# Altium footprint library FQFP (0.3mm Pitch, Square) - Corner Index.PcbLib: 26 footprints (part 1 of 3)
Each footprint in its own frame and in the unit in brackets; x right, y up, seen from the top. Pads: shape width x height; smd on the part's side, far side on the other; paste and mask are expansions set on the pad; w line width, h text height; cw(c..) or ccw(c..) is an arc to the next point about the centre after c.
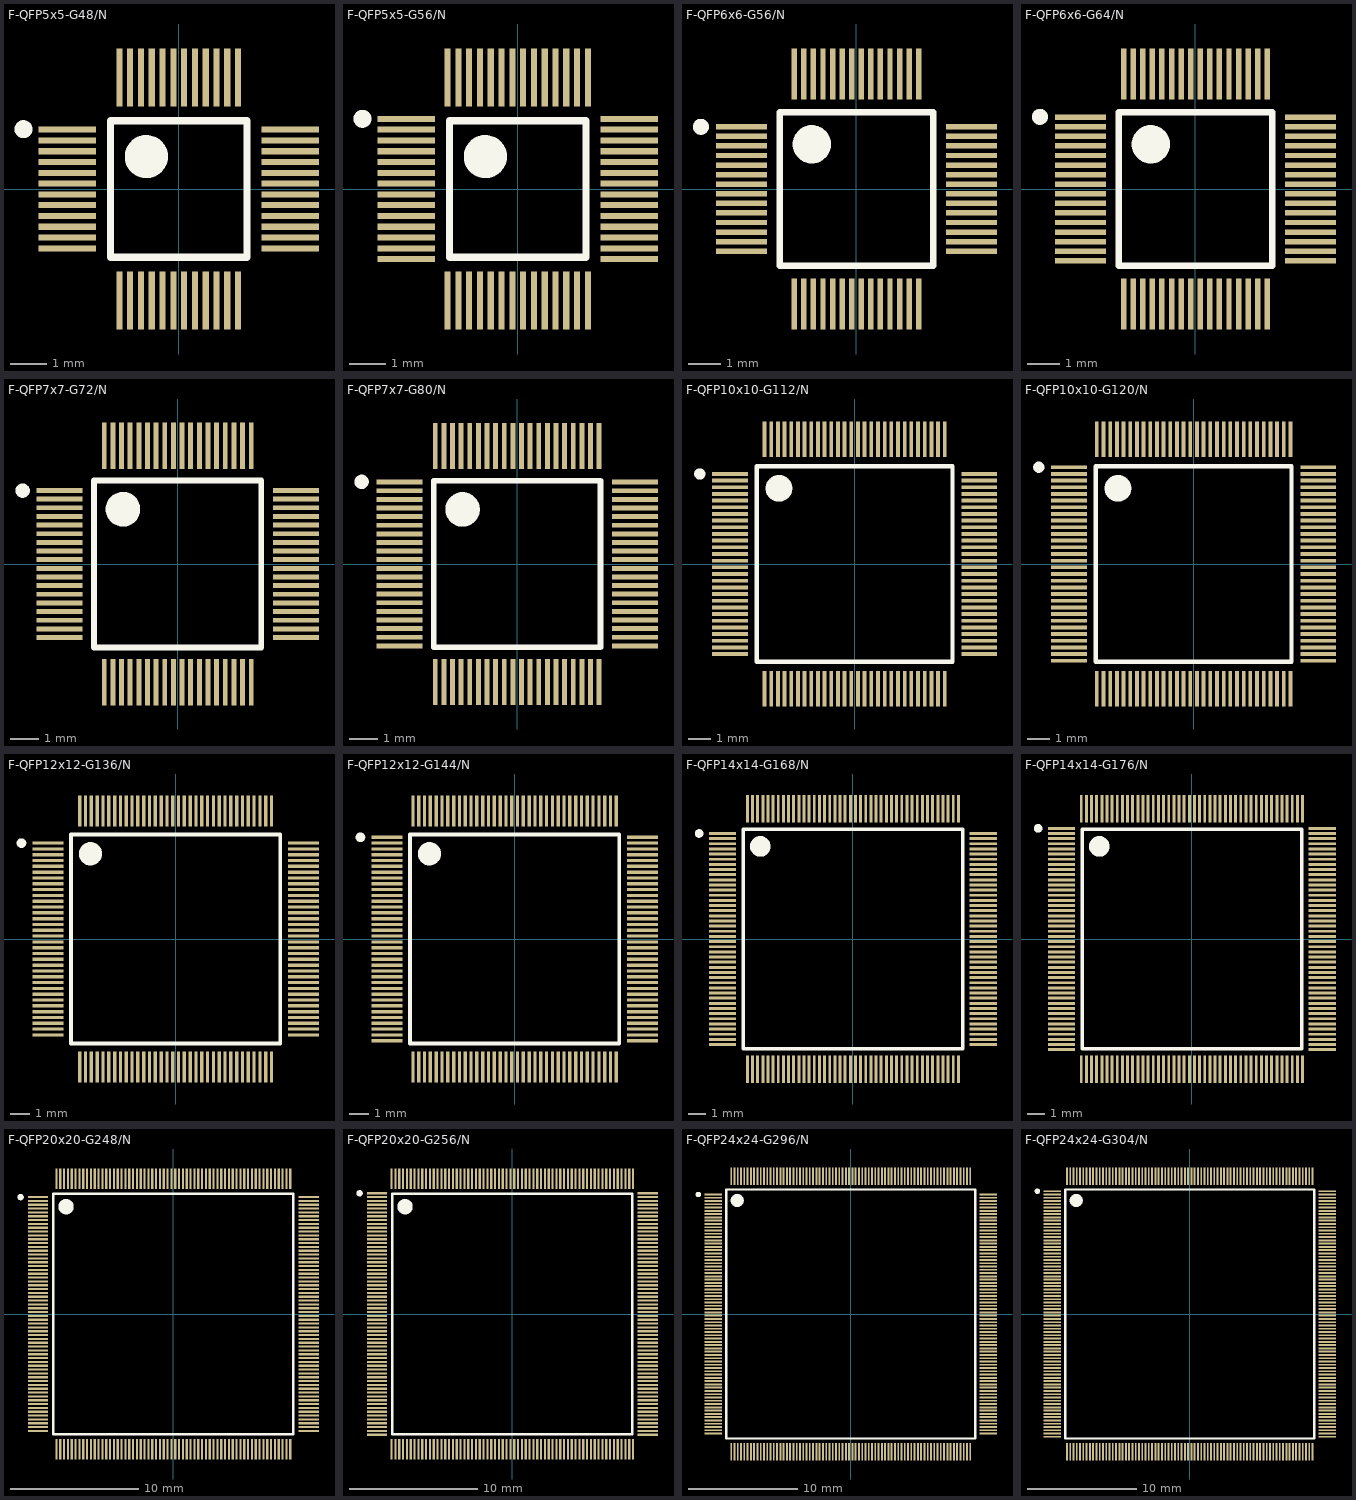
[diagram p0: the footprints below, top view; thin cyan lines are the x and y axes]

## F-QFP5x5-G48/N [mm] "QFP; 48 Leads; Body 5 x 5 mm; Pitch 0.3 mm"
height 1.7
pads (48):
  rect 1.6x0.17 smd: 1(-3.1,1.65) 2(-3.1,1.35) 3(-3.1,1.05) 4(-3.1,0.75) 5(-3.1,0.45) 6(-3.1,0.15) 7(-3.1,-0.15) 8(-3.1,-0.45) 9(-3.1,-0.75) 10(-3.1,-1.05) 11(-3.1,-1.35) 12(-3.1,-1.65) 25(3.1,-1.65) 26(3.1,-1.35) 27(3.1,-1.05) 28(3.1,-0.75) 29(3.1,-0.45) 30(3.1,-0.15) 31(3.1,0.15) 32(3.1,0.45) 33(3.1,0.75) 34(3.1,1.05) 35(3.1,1.35) 36(3.1,1.65)
  rect 0.17x1.6 smd: 13(-1.65,-3.1) 14(-1.35,-3.1) 15(-1.05,-3.1) 16(-0.75,-3.1) 17(-0.45,-3.1) 18(-0.15,-3.1) 19(0.15,-3.1) 20(0.45,-3.1) 21(0.75,-3.1) 22(1.05,-3.1) 23(1.35,-3.1) 24(1.65,-3.1) 37(1.65,3.1) 38(1.35,3.1) 39(1.05,3.1) 40(0.75,3.1) 41(0.45,3.1) 42(0.15,3.1) 43(-0.15,3.1) 44(-0.45,3.1) 45(-0.75,3.1) 46(-1.05,3.1) 47(-1.35,3.1) 48(-1.65,3.1)
Top Overlay:
  circle w0.25: c-4.316,1.663 r0.125
  circle w0.6: c-0.9,0.9 r0.3
  lines w0.2: -1.9,-1.9 1.9,-1.9 1.9,1.9 -1.9,1.9 -1.9,-1.9

## F-QFP5x5-G56/N [mm] "QFP; 56 Leads; Body 5 x 5 mm; Pitch 0.3 mm"
height 1.7
pads (56):
  rect 1.6x0.17 smd: 1(-3.1,1.95) 2(-3.1,1.65) 3(-3.1,1.35) 4(-3.1,1.05) 5(-3.1,0.75) 6(-3.1,0.45) 7(-3.1,0.15) 8(-3.1,-0.15) 9(-3.1,-0.45) 10(-3.1,-0.75) 11(-3.1,-1.05) 12(-3.1,-1.35) 13(-3.1,-1.65) 14(-3.1,-1.95) 29(3.1,-1.95) 30(3.1,-1.65) 31(3.1,-1.35) 32(3.1,-1.05) 33(3.1,-0.75) 34(3.1,-0.45) 35(3.1,-0.15) 36(3.1,0.15) 37(3.1,0.45) 38(3.1,0.75) 39(3.1,1.05) 40(3.1,1.35) 41(3.1,1.65) 42(3.1,1.95)
  rect 0.17x1.6 smd: 15(-1.95,-3.1) 16(-1.65,-3.1) 17(-1.35,-3.1) 18(-1.05,-3.1) 19(-0.75,-3.1) 20(-0.45,-3.1) 21(-0.15,-3.1) 22(0.15,-3.1) 23(0.45,-3.1) 24(0.75,-3.1) 25(1.05,-3.1) 26(1.35,-3.1) 27(1.65,-3.1) 28(1.95,-3.1) 43(1.95,3.1) 44(1.65,3.1) 45(1.35,3.1) 46(1.05,3.1) 47(0.75,3.1) 48(0.45,3.1) 49(0.15,3.1) 50(-0.15,3.1) 51(-0.45,3.1) 52(-0.75,3.1) 53(-1.05,3.1) 54(-1.35,3.1) 55(-1.65,3.1) 56(-1.95,3.1)
Top Overlay:
  circle w0.25: c-4.316,1.952 r0.125
  circle w0.6: c-0.9,0.9 r0.3
  lines w0.2: -1.9,-1.9 1.9,-1.9 1.9,1.9 -1.9,1.9 -1.9,-1.9

## F-QFP6x6-G56/N [mm] "QFP; 56 Leads; Body 6 x 6 mm; Pitch 0.3 mm"
height 1.7
pads (56):
  rect 1.6x0.17 smd: 1(-3.6,1.95) 2(-3.6,1.65) 3(-3.6,1.35) 4(-3.6,1.05) 5(-3.6,0.75) 6(-3.6,0.45) 7(-3.6,0.15) 8(-3.6,-0.15) 9(-3.6,-0.45) 10(-3.6,-0.75) 11(-3.6,-1.05) 12(-3.6,-1.35) 13(-3.6,-1.65) 14(-3.6,-1.95) 29(3.6,-1.95) 30(3.6,-1.65) 31(3.6,-1.35) 32(3.6,-1.05) 33(3.6,-0.75) 34(3.6,-0.45) 35(3.6,-0.15) 36(3.6,0.15) 37(3.6,0.45) 38(3.6,0.75) 39(3.6,1.05) 40(3.6,1.35) 41(3.6,1.65) 42(3.6,1.95)
  rect 0.17x1.6 smd: 15(-1.95,-3.6) 16(-1.65,-3.6) 17(-1.35,-3.6) 18(-1.05,-3.6) 19(-0.75,-3.6) 20(-0.45,-3.6) 21(-0.15,-3.6) 22(0.15,-3.6) 23(0.45,-3.6) 24(0.75,-3.6) 25(1.05,-3.6) 26(1.35,-3.6) 27(1.65,-3.6) 28(1.95,-3.6) 43(1.95,3.6) 44(1.65,3.6) 45(1.35,3.6) 46(1.05,3.6) 47(0.75,3.6) 48(0.45,3.6) 49(0.15,3.6) 50(-0.15,3.6) 51(-0.45,3.6) 52(-0.75,3.6) 53(-1.05,3.6) 54(-1.35,3.6) 55(-1.65,3.6) 56(-1.95,3.6)
Top Overlay:
  circle w0.25: c-4.87,1.948 r0.125
  circle w0.6: c-1.4,1.4 r0.3
  lines w0.2: -2.4,-2.4 2.4,-2.4 2.4,2.4 -2.4,2.4 -2.4,-2.4

## F-QFP6x6-G64/N [mm] "QFP; 64 Leads; Body 6 x 6 mm; Pitch 0.3 mm"
height 1.7
pads (64):
  rect 1.6x0.17 smd: 1(-3.6,2.25) 2(-3.6,1.95) 3(-3.6,1.65) 4(-3.6,1.35) 5(-3.6,1.05) 6(-3.6,0.75) 7(-3.6,0.45) 8(-3.6,0.15) 9(-3.6,-0.15) 10(-3.6,-0.45) 11(-3.6,-0.75) 12(-3.6,-1.05) 13(-3.6,-1.35) 14(-3.6,-1.65) 15(-3.6,-1.95) 16(-3.6,-2.25) 33(3.6,-2.25) 34(3.6,-1.95) 35(3.6,-1.65) 36(3.6,-1.35) 37(3.6,-1.05) 38(3.6,-0.75) 39(3.6,-0.45) 40(3.6,-0.15) 41(3.6,0.15) 42(3.6,0.45) 43(3.6,0.75) 44(3.6,1.05) 45(3.6,1.35) 46(3.6,1.65) 47(3.6,1.95) 48(3.6,2.25)
  rect 0.17x1.6 smd: 17(-2.25,-3.6) 18(-1.95,-3.6) 19(-1.65,-3.6) 20(-1.35,-3.6) 21(-1.05,-3.6) 22(-0.75,-3.6) 23(-0.45,-3.6) 24(-0.15,-3.6) 25(0.15,-3.6) 26(0.45,-3.6) 27(0.75,-3.6) 28(1.05,-3.6) 29(1.35,-3.6) 30(1.65,-3.6) 31(1.95,-3.6) 32(2.25,-3.6) 49(2.25,3.6) 50(1.95,3.6) 51(1.65,3.6) 52(1.35,3.6) 53(1.05,3.6) 54(0.75,3.6) 55(0.45,3.6) 56(0.15,3.6) 57(-0.15,3.6) 58(-0.45,3.6) 59(-0.75,3.6) 60(-1.05,3.6) 61(-1.35,3.6) 62(-1.65,3.6) 63(-1.95,3.6) 64(-2.25,3.6)
Top Overlay:
  circle w0.6: c-1.4,1.4 r0.3
  circle w0.25: c-4.869,2.26 r0.125
  lines w0.2: -2.4,-2.4 -2.4,2.4 2.4,2.4 2.4,-2.4 -2.4,-2.4

## F-QFP7x7-G72/N [mm] "QFP; 72 Leads; Body 7 x 7 mm; Pitch 0.3 mm"
height 1.7
pads (72):
  rect 1.6x0.17 smd: 1(-4.1,2.55) 2(-4.1,2.25) 3(-4.1,1.95) 4(-4.1,1.65) 5(-4.1,1.35) 6(-4.1,1.05) 7(-4.1,0.75) 8(-4.1,0.45) 9(-4.1,0.15) 10(-4.1,-0.15) 11(-4.1,-0.45) 12(-4.1,-0.75) 13(-4.1,-1.05) 14(-4.1,-1.35) 15(-4.1,-1.65) 16(-4.1,-1.95) 17(-4.1,-2.25) 18(-4.1,-2.55) 37(4.1,-2.55) 38(4.1,-2.25) 39(4.1,-1.95) 40(4.1,-1.65) 41(4.1,-1.35) 42(4.1,-1.05) 43(4.1,-0.75) 44(4.1,-0.45) 45(4.1,-0.15) 46(4.1,0.15) 47(4.1,0.45) 48(4.1,0.75) 49(4.1,1.05) 50(4.1,1.35) 51(4.1,1.65) 52(4.1,1.95) 53(4.1,2.25) 54(4.1,2.55)
  rect 0.17x1.6 smd: 19(-2.55,-4.1) 20(-2.25,-4.1) 21(-1.95,-4.1) 22(-1.65,-4.1) 23(-1.35,-4.1) 24(-1.05,-4.1) 25(-0.75,-4.1) 26(-0.45,-4.1) 27(-0.15,-4.1) 28(0.15,-4.1) 29(0.45,-4.1) 30(0.75,-4.1) 31(1.05,-4.1) 32(1.35,-4.1) 33(1.65,-4.1) 34(1.95,-4.1) 35(2.25,-4.1) 36(2.55,-4.1) 55(2.55,4.1) 56(2.25,4.1) 57(1.95,4.1) 58(1.65,4.1) 59(1.35,4.1) 60(1.05,4.1) 61(0.75,4.1) 62(0.45,4.1) 63(0.15,4.1) 64(-0.15,4.1) 65(-0.45,4.1) 66(-0.75,4.1) 67(-1.05,4.1) 68(-1.35,4.1) 69(-1.65,4.1) 70(-1.95,4.1) 71(-2.25,4.1) 72(-2.55,4.1)
Top Overlay:
  circle w0.25: c-5.38,2.545 r0.125
  circle w0.6: c-1.9,1.9 r0.3
  lines w0.2: -2.9,-2.9 2.9,-2.9 2.9,2.9 -2.9,2.9 -2.9,-2.9

## F-QFP7x7-G80/N [mm] "QFP; 80 Leads; Body 7 x 7 mm; Pitch 0.3 mm"
height 1.7
pads (80):
  rect 1.6x0.17 smd: 1(-4.1,2.85) 2(-4.1,2.55) 3(-4.1,2.25) 4(-4.1,1.95) 5(-4.1,1.65) 6(-4.1,1.35) 7(-4.1,1.05) 8(-4.1,0.75) 9(-4.1,0.45) 10(-4.1,0.15) 11(-4.1,-0.15) 12(-4.1,-0.45) 13(-4.1,-0.75) 14(-4.1,-1.05) 15(-4.1,-1.35) 16(-4.1,-1.65) 17(-4.1,-1.95) 18(-4.1,-2.25) 19(-4.1,-2.55) 20(-4.1,-2.85) 41(4.1,-2.85) 42(4.1,-2.55) 43(4.1,-2.25) 44(4.1,-1.95) 45(4.1,-1.65) 46(4.1,-1.35) 47(4.1,-1.05) 48(4.1,-0.75) 49(4.1,-0.45) 50(4.1,-0.15) 51(4.1,0.15) 52(4.1,0.45) 53(4.1,0.75) 54(4.1,1.05) 55(4.1,1.35) 56(4.1,1.65) 57(4.1,1.95) 58(4.1,2.25) 59(4.1,2.55) 60(4.1,2.85)
  rect 0.17x1.6 smd: 21(-2.85,-4.1) 22(-2.55,-4.1) 23(-2.25,-4.1) 24(-1.95,-4.1) 25(-1.65,-4.1) 26(-1.35,-4.1) 27(-1.05,-4.1) 28(-0.75,-4.1) 29(-0.45,-4.1) 30(-0.15,-4.1) 31(0.15,-4.1) 32(0.45,-4.1) 33(0.75,-4.1) 34(1.05,-4.1) 35(1.35,-4.1) 36(1.65,-4.1) 37(1.95,-4.1) 38(2.25,-4.1) 39(2.55,-4.1) 40(2.85,-4.1) 61(2.85,4.1) 62(2.55,4.1) 63(2.25,4.1) 64(1.95,4.1) 65(1.65,4.1) 66(1.35,4.1) 67(1.05,4.1) 68(0.75,4.1) 69(0.45,4.1) 70(0.15,4.1) 71(-0.15,4.1) 72(-0.45,4.1) 73(-0.75,4.1) 74(-1.05,4.1) 75(-1.35,4.1) 76(-1.65,4.1) 77(-1.95,4.1) 78(-2.25,4.1) 79(-2.55,4.1) 80(-2.85,4.1)
Top Overlay:
  circle w0.6: c-1.9,1.9 r0.3
  circle w0.25: c-5.413,2.859 r0.125
  lines w0.2: -2.9,-2.9 -2.9,2.9 2.9,2.9 2.9,-2.9 -2.9,-2.9

## F-QFP10x10-G112/N [mm] "QFP; 112 Leads; Body 10 x 10 mm; Pitch 0.3 mm"
height 2.2
pads (112):
  rect 1.6x0.17 smd: 1(-5.6,4.05) 2(-5.6,3.75) 3(-5.6,3.45) 4(-5.6,3.15) 5(-5.6,2.85) 6(-5.6,2.55) 7(-5.6,2.25) 8(-5.6,1.95) 9(-5.6,1.65) 10(-5.6,1.35) 11(-5.6,1.05) 12(-5.6,0.75) 13(-5.6,0.45) 14(-5.6,0.15) 15(-5.6,-0.15) 16(-5.6,-0.45) 17(-5.6,-0.75) 18(-5.6,-1.05) 19(-5.6,-1.35) 20(-5.6,-1.65) 21(-5.6,-1.95) 22(-5.6,-2.25) 23(-5.6,-2.55) 24(-5.6,-2.85) 25(-5.6,-3.15) 26(-5.6,-3.45) 27(-5.6,-3.75) 28(-5.6,-4.05) 57(5.6,-4.05) 58(5.6,-3.75) 59(5.6,-3.45) 60(5.6,-3.15) 61(5.6,-2.85) 62(5.6,-2.55) 63(5.6,-2.25) 64(5.6,-1.95) 65(5.6,-1.65) 66(5.6,-1.35) 67(5.6,-1.05) 68(5.6,-0.75) 69(5.6,-0.45) 70(5.6,-0.15) 71(5.6,0.15) 72(5.6,0.45) 73(5.6,0.75) 74(5.6,1.05) 75(5.6,1.35) 76(5.6,1.65) 77(5.6,1.95) 78(5.6,2.25) 79(5.6,2.55) 80(5.6,2.85) 81(5.6,3.15) 82(5.6,3.45) 83(5.6,3.75) 84(5.6,4.05)
  rect 0.17x1.6 smd: 29(-4.05,-5.6) 30(-3.75,-5.6) 31(-3.45,-5.6) 32(-3.15,-5.6) 33(-2.85,-5.6) 34(-2.55,-5.6) 35(-2.25,-5.6) 36(-1.95,-5.6) 37(-1.65,-5.6) 38(-1.35,-5.6) 39(-1.05,-5.6) 40(-0.75,-5.6) 41(-0.45,-5.6) 42(-0.15,-5.6) 43(0.15,-5.6) 44(0.45,-5.6) 45(0.75,-5.6) 46(1.05,-5.6) 47(1.35,-5.6) 48(1.65,-5.6) 49(1.95,-5.6) 50(2.25,-5.6) 51(2.55,-5.6) 52(2.85,-5.6) 53(3.15,-5.6) 54(3.45,-5.6) 55(3.75,-5.6) 56(4.05,-5.6) 85(4.05,5.6) 86(3.75,5.6) 87(3.45,5.6) 88(3.15,5.6) 89(2.85,5.6) 90(2.55,5.6) 91(2.25,5.6) 92(1.95,5.6) 93(1.65,5.6) 94(1.35,5.6) 95(1.05,5.6) 96(0.75,5.6) 97(0.45,5.6) 98(0.15,5.6) 99(-0.15,5.6) 100(-0.45,5.6) 101(-0.75,5.6) 102(-1.05,5.6) 103(-1.35,5.6) 104(-1.65,5.6) 105(-1.95,5.6) 106(-2.25,5.6) 107(-2.55,5.6) 108(-2.85,5.6) 109(-3.15,5.6) 110(-3.45,5.6) 111(-3.75,5.6) 112(-4.05,5.6)
Top Overlay:
  circle w0.25: c-6.96,4.05 r0.125
  circle w0.6: c-3.4,3.4 r0.3
  lines w0.2: -4.4,-4.4 4.4,-4.4 4.4,4.4 -4.4,4.4 -4.4,-4.4

## F-QFP10x10-G120/N [mm] "QFP; 120 Leads; Body 10 x 10 mm; Pitch 0.3 mm"
height 2.2
pads (120):
  rect 1.6x0.17 smd: 1(-5.6,4.35) 2(-5.6,4.05) 3(-5.6,3.75) 4(-5.6,3.45) 5(-5.6,3.15) 6(-5.6,2.85) 7(-5.6,2.55) 8(-5.6,2.25) 9(-5.6,1.95) 10(-5.6,1.65) 11(-5.6,1.35) 12(-5.6,1.05) 13(-5.6,0.75) 14(-5.6,0.45) 15(-5.6,0.15) 16(-5.6,-0.15) 17(-5.6,-0.45) 18(-5.6,-0.75) 19(-5.6,-1.05) 20(-5.6,-1.35) 21(-5.6,-1.65) 22(-5.6,-1.95) 23(-5.6,-2.25) 24(-5.6,-2.55) 25(-5.6,-2.85) 26(-5.6,-3.15) 27(-5.6,-3.45) 28(-5.6,-3.75) 29(-5.6,-4.05) 30(-5.6,-4.35) 61(5.6,-4.35) 62(5.6,-4.05) 63(5.6,-3.75) 64(5.6,-3.45) 65(5.6,-3.15) 66(5.6,-2.85) 67(5.6,-2.55) 68(5.6,-2.25) 69(5.6,-1.95) 70(5.6,-1.65) 71(5.6,-1.35) 72(5.6,-1.05) 73(5.6,-0.75) 74(5.6,-0.45) 75(5.6,-0.15) 76(5.6,0.15) 77(5.6,0.45) 78(5.6,0.75) 79(5.6,1.05) 80(5.6,1.35) 81(5.6,1.65) 82(5.6,1.95) 83(5.6,2.25) 84(5.6,2.55) 85(5.6,2.85) 86(5.6,3.15) 87(5.6,3.45) 88(5.6,3.75) 89(5.6,4.05) 90(5.6,4.35)
  rect 0.17x1.6 smd: 31(-4.35,-5.6) 32(-4.05,-5.6) 33(-3.75,-5.6) 34(-3.45,-5.6) 35(-3.15,-5.6) 36(-2.85,-5.6) 37(-2.55,-5.6) 38(-2.25,-5.6) 39(-1.95,-5.6) 40(-1.65,-5.6) 41(-1.35,-5.6) 42(-1.05,-5.6) 43(-0.75,-5.6) 44(-0.45,-5.6) 45(-0.15,-5.6) 46(0.15,-5.6) 47(0.45,-5.6) 48(0.75,-5.6) 49(1.05,-5.6) 50(1.35,-5.6) 51(1.65,-5.6) 52(1.95,-5.6) 53(2.25,-5.6) 54(2.55,-5.6) 55(2.85,-5.6) 56(3.15,-5.6) 57(3.45,-5.6) 58(3.75,-5.6) 59(4.05,-5.6) 60(4.35,-5.6) 91(4.35,5.6) 92(4.05,5.6) 93(3.75,5.6) 94(3.45,5.6) 95(3.15,5.6) 96(2.85,5.6) 97(2.55,5.6) 98(2.25,5.6) 99(1.95,5.6) 100(1.65,5.6) 101(1.35,5.6) 102(1.05,5.6) 103(0.75,5.6) 104(0.45,5.6) 105(0.15,5.6) 106(-0.15,5.6) 107(-0.45,5.6) 108(-0.75,5.6) 109(-1.05,5.6) 110(-1.35,5.6) 111(-1.65,5.6) 112(-1.95,5.6) 113(-2.25,5.6) 114(-2.55,5.6) 115(-2.85,5.6) 116(-3.15,5.6) 117(-3.45,5.6) 118(-3.75,5.6) 119(-4.05,5.6) 120(-4.35,5.6)
Top Overlay:
  circle w0.25: c-6.96,4.35 r0.125
  circle w0.6: c-3.4,3.4 r0.3
  lines w0.2: -4.4,-4.4 4.4,-4.4 4.4,4.4 -4.4,4.4 -4.4,-4.4

## F-QFP12x12-G136/N [mm] "QFP; 136 Leads; Body 12 x 12 mm; Pitch 0.3 mm"
height 2.2
pads (136):
  rect 1.6x0.17 smd: 1(-6.6,4.95) 2(-6.6,4.65) 3(-6.6,4.35) 4(-6.6,4.05) 5(-6.6,3.75) 6(-6.6,3.45) 7(-6.6,3.15) 8(-6.6,2.85) 9(-6.6,2.55) 10(-6.6,2.25) 11(-6.6,1.95) 12(-6.6,1.65) 13(-6.6,1.35) 14(-6.6,1.05) 15(-6.6,0.75) 16(-6.6,0.45) 17(-6.6,0.15) 18(-6.6,-0.15) 19(-6.6,-0.45) 20(-6.6,-0.75) 21(-6.6,-1.05) 22(-6.6,-1.35) 23(-6.6,-1.65) 24(-6.6,-1.95) 25(-6.6,-2.25) 26(-6.6,-2.55) 27(-6.6,-2.85) 28(-6.6,-3.15) 29(-6.6,-3.45) 30(-6.6,-3.75) 31(-6.6,-4.05) 32(-6.6,-4.35) 33(-6.6,-4.65) 34(-6.6,-4.95) 69(6.6,-4.95) 70(6.6,-4.65) 71(6.6,-4.35) 72(6.6,-4.05) 73(6.6,-3.75) 74(6.6,-3.45) 75(6.6,-3.15) 76(6.6,-2.85) 77(6.6,-2.55) 78(6.6,-2.25) 79(6.6,-1.95) 80(6.6,-1.65) 81(6.6,-1.35) 82(6.6,-1.05) 83(6.6,-0.75) 84(6.6,-0.45) 85(6.6,-0.15) 86(6.6,0.15) 87(6.6,0.45) 88(6.6,0.75) 89(6.6,1.05) 90(6.6,1.35) 91(6.6,1.65) 92(6.6,1.95) 93(6.6,2.25) 94(6.6,2.55) 95(6.6,2.85) 96(6.6,3.15) 97(6.6,3.45) 98(6.6,3.75) 99(6.6,4.05) 100(6.6,4.35) 101(6.6,4.65) 102(6.6,4.95)
  rect 0.17x1.6 smd: 35(-4.95,-6.6) 36(-4.65,-6.6) 37(-4.35,-6.6) 38(-4.05,-6.6) 39(-3.75,-6.6) 40(-3.45,-6.6) 41(-3.15,-6.6) 42(-2.85,-6.6) 43(-2.55,-6.6) 44(-2.25,-6.6) 45(-1.95,-6.6) 46(-1.65,-6.6) 47(-1.35,-6.6) 48(-1.05,-6.6) 49(-0.75,-6.6) 50(-0.45,-6.6) 51(-0.15,-6.6) 52(0.15,-6.6) 53(0.45,-6.6) 54(0.75,-6.6) 55(1.05,-6.6) 56(1.35,-6.6) 57(1.65,-6.6) 58(1.95,-6.6) 59(2.25,-6.6) 60(2.55,-6.6) 61(2.85,-6.6) 62(3.15,-6.6) 63(3.45,-6.6) 64(3.75,-6.6) 65(4.05,-6.6) 66(4.35,-6.6) 67(4.65,-6.6) 68(4.95,-6.6) 103(4.95,6.6) 104(4.65,6.6) 105(4.35,6.6) 106(4.05,6.6) 107(3.75,6.6) 108(3.45,6.6) 109(3.15,6.6) 110(2.85,6.6) 111(2.55,6.6) 112(2.25,6.6) 113(1.95,6.6) 114(1.65,6.6) 115(1.35,6.6) 116(1.05,6.6) 117(0.75,6.6) 118(0.45,6.6) 119(0.15,6.6) 120(-0.15,6.6) 121(-0.45,6.6) 122(-0.75,6.6) 123(-1.05,6.6) 124(-1.35,6.6) 125(-1.65,6.6) 126(-1.95,6.6) 127(-2.25,6.6) 128(-2.55,6.6) 129(-2.85,6.6) 130(-3.15,6.6) 131(-3.45,6.6) 132(-3.75,6.6) 133(-4.05,6.6) 134(-4.35,6.6) 135(-4.65,6.6) 136(-4.95,6.6)
Top Overlay:
  circle w0.25: c-7.96,4.95 r0.125
  circle w0.6: c-4.4,4.4 r0.3
  lines w0.2: -5.4,-5.4 5.4,-5.4 5.4,5.4 -5.4,5.4 -5.4,-5.4

## F-QFP12x12-G144/N [mm] "QFP; 144 Leads; Body 12 x 12 mm; Pitch 0.3 mm"
height 2.2
pads (144):
  rect 1.6x0.17 smd: 1(-6.6,5.25) 2(-6.6,4.95) 3(-6.6,4.65) 4(-6.6,4.35) 5(-6.6,4.05) 6(-6.6,3.75) 7(-6.6,3.45) 8(-6.6,3.15) 9(-6.6,2.85) 10(-6.6,2.55) 11(-6.6,2.25) 12(-6.6,1.95) 13(-6.6,1.65) 14(-6.6,1.35) 15(-6.6,1.05) 16(-6.6,0.75) 17(-6.6,0.45) 18(-6.6,0.15) 19(-6.6,-0.15) 20(-6.6,-0.45) 21(-6.6,-0.75) 22(-6.6,-1.05) 23(-6.6,-1.35) 24(-6.6,-1.65) 25(-6.6,-1.95) 26(-6.6,-2.25) 27(-6.6,-2.55) 28(-6.6,-2.85) 29(-6.6,-3.15) 30(-6.6,-3.45) 31(-6.6,-3.75) 32(-6.6,-4.05) 33(-6.6,-4.35) 34(-6.6,-4.65) 35(-6.6,-4.95) 36(-6.6,-5.25) 73(6.6,-5.25) 74(6.6,-4.95) 75(6.6,-4.65) 76(6.6,-4.35) 77(6.6,-4.05) 78(6.6,-3.75) 79(6.6,-3.45) 80(6.6,-3.15) 81(6.6,-2.85) 82(6.6,-2.55) 83(6.6,-2.25) 84(6.6,-1.95) 85(6.6,-1.65) 86(6.6,-1.35) 87(6.6,-1.05) 88(6.6,-0.75) 89(6.6,-0.45) 90(6.6,-0.15) 91(6.6,0.15) 92(6.6,0.45) 93(6.6,0.75) 94(6.6,1.05) 95(6.6,1.35) 96(6.6,1.65) 97(6.6,1.95) 98(6.6,2.25) 99(6.6,2.55) 100(6.6,2.85) 101(6.6,3.15) 102(6.6,3.45) 103(6.6,3.75) 104(6.6,4.05) 105(6.6,4.35) 106(6.6,4.65) 107(6.6,4.95) 108(6.6,5.25)
  rect 0.17x1.6 smd: 37(-5.25,-6.6) 38(-4.95,-6.6) 39(-4.65,-6.6) 40(-4.35,-6.6) 41(-4.05,-6.6) 42(-3.75,-6.6) 43(-3.45,-6.6) 44(-3.15,-6.6) 45(-2.85,-6.6) 46(-2.55,-6.6) 47(-2.25,-6.6) 48(-1.95,-6.6) 49(-1.65,-6.6) 50(-1.35,-6.6) 51(-1.05,-6.6) 52(-0.75,-6.6) 53(-0.45,-6.6) 54(-0.15,-6.6) 55(0.15,-6.6) 56(0.45,-6.6) 57(0.75,-6.6) 58(1.05,-6.6) 59(1.35,-6.6) 60(1.65,-6.6) 61(1.95,-6.6) 62(2.25,-6.6) 63(2.55,-6.6) 64(2.85,-6.6) 65(3.15,-6.6) 66(3.45,-6.6) 67(3.75,-6.6) 68(4.05,-6.6) 69(4.35,-6.6) 70(4.65,-6.6) 71(4.95,-6.6) 72(5.25,-6.6) 109(5.25,6.6) 110(4.95,6.6) 111(4.65,6.6) 112(4.35,6.6) 113(4.05,6.6) 114(3.75,6.6) 115(3.45,6.6) 116(3.15,6.6) 117(2.85,6.6) 118(2.55,6.6) 119(2.25,6.6) 120(1.95,6.6) 121(1.65,6.6) 122(1.35,6.6) 123(1.05,6.6) 124(0.75,6.6) 125(0.45,6.6) 126(0.15,6.6) 127(-0.15,6.6) 128(-0.45,6.6) 129(-0.75,6.6) 130(-1.05,6.6) 131(-1.35,6.6) 132(-1.65,6.6) 133(-1.95,6.6) 134(-2.25,6.6) 135(-2.55,6.6) 136(-2.85,6.6) 137(-3.15,6.6) 138(-3.45,6.6) 139(-3.75,6.6) 140(-4.05,6.6) 141(-4.35,6.6) 142(-4.65,6.6) 143(-4.95,6.6) 144(-5.25,6.6)
Top Overlay:
  circle w0.25: c-7.96,5.25 r0.125
  circle w0.6: c-4.4,4.4 r0.3
  lines w0.2: -5.4,-5.4 5.4,-5.4 5.4,5.4 -5.4,5.4 -5.4,-5.4

## F-QFP14x14-G168/N [mm] "QFP; 168 Leads; Body 14 x 14 mm; Pitch 0.3 mm"
height 2.2
pads (168):
  rect 1.6x0.17 smd: 1(-7.6,6.15) 2(-7.6,5.85) 3(-7.6,5.55) 4(-7.6,5.25) 5(-7.6,4.95) 6(-7.6,4.65) 7(-7.6,4.35) 8(-7.6,4.05) 9(-7.6,3.75) 10(-7.6,3.45) 11(-7.6,3.15) 12(-7.6,2.85) 13(-7.6,2.55) 14(-7.6,2.25) 15(-7.6,1.95) 16(-7.6,1.65) 17(-7.6,1.35) 18(-7.6,1.05) 19(-7.6,0.75) 20(-7.6,0.45) 21(-7.6,0.15) 22(-7.6,-0.15) 23(-7.6,-0.45) 24(-7.6,-0.75) 25(-7.6,-1.05) 26(-7.6,-1.35) 27(-7.6,-1.65) 28(-7.6,-1.95) 29(-7.6,-2.25) 30(-7.6,-2.55) 31(-7.6,-2.85) 32(-7.6,-3.15) 33(-7.6,-3.45) 34(-7.6,-3.75) 35(-7.6,-4.05) 36(-7.6,-4.35) 37(-7.6,-4.65) 38(-7.6,-4.95) 39(-7.6,-5.25) 40(-7.6,-5.55) 41(-7.6,-5.85) 42(-7.6,-6.15) 85(7.6,-6.15) 86(7.6,-5.85) 87(7.6,-5.55) 88(7.6,-5.25) 89(7.6,-4.95) 90(7.6,-4.65) 91(7.6,-4.35) 92(7.6,-4.05) 93(7.6,-3.75) 94(7.6,-3.45) 95(7.6,-3.15) 96(7.6,-2.85) 97(7.6,-2.55) 98(7.6,-2.25) 99(7.6,-1.95) 100(7.6,-1.65) 101(7.6,-1.35) 102(7.6,-1.05) 103(7.6,-0.75) 104(7.6,-0.45) 105(7.6,-0.15) 106(7.6,0.15) 107(7.6,0.45) 108(7.6,0.75) 109(7.6,1.05) 110(7.6,1.35) 111(7.6,1.65) 112(7.6,1.95) 113(7.6,2.25) 114(7.6,2.55) 115(7.6,2.85) 116(7.6,3.15) 117(7.6,3.45) 118(7.6,3.75) 119(7.6,4.05) 120(7.6,4.35) 121(7.6,4.65) 122(7.6,4.95) 123(7.6,5.25) 124(7.6,5.55) 125(7.6,5.85) 126(7.6,6.15)
  rect 0.17x1.6 smd: 43(-6.15,-7.6) 44(-5.85,-7.6) 45(-5.55,-7.6) 46(-5.25,-7.6) 47(-4.95,-7.6) 48(-4.65,-7.6) 49(-4.35,-7.6) 50(-4.05,-7.6) 51(-3.75,-7.6) 52(-3.45,-7.6) 53(-3.15,-7.6) 54(-2.85,-7.6) 55(-2.55,-7.6) 56(-2.25,-7.6) 57(-1.95,-7.6) 58(-1.65,-7.6) 59(-1.35,-7.6) 60(-1.05,-7.6) 61(-0.75,-7.6) 62(-0.45,-7.6) 63(-0.15,-7.6) 64(0.15,-7.6) 65(0.45,-7.6) 66(0.75,-7.6) 67(1.05,-7.6) 68(1.35,-7.6) 69(1.65,-7.6) 70(1.95,-7.6) 71(2.25,-7.6) 72(2.55,-7.6) 73(2.85,-7.6) 74(3.15,-7.6) 75(3.45,-7.6) 76(3.75,-7.6) 77(4.05,-7.6) 78(4.35,-7.6) 79(4.65,-7.6) 80(4.95,-7.6) 81(5.25,-7.6) 82(5.55,-7.6) 83(5.85,-7.6) 84(6.15,-7.6) 127(6.15,7.6) 128(5.85,7.6) 129(5.55,7.6) 130(5.25,7.6) 131(4.95,7.6) 132(4.65,7.6) 133(4.35,7.6) 134(4.05,7.6) 135(3.75,7.6) 136(3.45,7.6) 137(3.15,7.6) 138(2.85,7.6) 139(2.55,7.6) 140(2.25,7.6) 141(1.95,7.6) 142(1.65,7.6) 143(1.35,7.6) 144(1.05,7.6) 145(0.75,7.6) 146(0.45,7.6) 147(0.15,7.6) 148(-0.15,7.6) 149(-0.45,7.6) 150(-0.75,7.6) 151(-1.05,7.6) 152(-1.35,7.6) 153(-1.65,7.6) 154(-1.95,7.6) 155(-2.25,7.6) 156(-2.55,7.6) 157(-2.85,7.6) 158(-3.15,7.6) 159(-3.45,7.6) 160(-3.75,7.6) 161(-4.05,7.6) 162(-4.35,7.6) 163(-4.65,7.6) 164(-4.95,7.6) 165(-5.25,7.6) 166(-5.55,7.6) 167(-5.85,7.6) 168(-6.15,7.6)
Top Overlay:
  circle w0.6: c-5.4,5.4 r0.3
  circle w0.25: c-8.96,6.15 r0.125
  lines w0.2: -6.4,-6.4 -6.4,6.4 6.4,6.4 6.4,-6.4 -6.4,-6.4

## F-QFP14x14-G176/N [mm] "QFP; 176 Leads; Body 14 x 14 mm; Pitch 0.3 mm"
height 2.2
pads (176):
  rect 1.6x0.17 smd: 1(-7.6,6.45) 2(-7.6,6.15) 3(-7.6,5.85) 4(-7.6,5.55) 5(-7.6,5.25) 6(-7.6,4.95) 7(-7.6,4.65) 8(-7.6,4.35) 9(-7.6,4.05) 10(-7.6,3.75) 11(-7.6,3.45) 12(-7.6,3.15) 13(-7.6,2.85) 14(-7.6,2.55) 15(-7.6,2.25) 16(-7.6,1.95) 17(-7.6,1.65) 18(-7.6,1.35) 19(-7.6,1.05) 20(-7.6,0.75) 21(-7.6,0.45) 22(-7.6,0.15) 23(-7.6,-0.15) 24(-7.6,-0.45) 25(-7.6,-0.75) 26(-7.6,-1.05) 27(-7.6,-1.35) 28(-7.6,-1.65) 29(-7.6,-1.95) 30(-7.6,-2.25) 31(-7.6,-2.55) 32(-7.6,-2.85) 33(-7.6,-3.15) 34(-7.6,-3.45) 35(-7.6,-3.75) 36(-7.6,-4.05) 37(-7.6,-4.35) 38(-7.6,-4.65) 39(-7.6,-4.95) 40(-7.6,-5.25) 41(-7.6,-5.55) 42(-7.6,-5.85) 43(-7.6,-6.15) 44(-7.6,-6.45) 89(7.6,-6.45) 90(7.6,-6.15) 91(7.6,-5.85) 92(7.6,-5.55) 93(7.6,-5.25) 94(7.6,-4.95) 95(7.6,-4.65) 96(7.6,-4.35) 97(7.6,-4.05) 98(7.6,-3.75) 99(7.6,-3.45) 100(7.6,-3.15) 101(7.6,-2.85) 102(7.6,-2.55) 103(7.6,-2.25) 104(7.6,-1.95) 105(7.6,-1.65) 106(7.6,-1.35) 107(7.6,-1.05) 108(7.6,-0.75) 109(7.6,-0.45) 110(7.6,-0.15) 111(7.6,0.15) 112(7.6,0.45) 113(7.6,0.75) 114(7.6,1.05) 115(7.6,1.35) 116(7.6,1.65) 117(7.6,1.95) 118(7.6,2.25) 119(7.6,2.55) 120(7.6,2.85) 121(7.6,3.15) 122(7.6,3.45) 123(7.6,3.75) 124(7.6,4.05) 125(7.6,4.35) 126(7.6,4.65) 127(7.6,4.95) 128(7.6,5.25) 129(7.6,5.55) 130(7.6,5.85) 131(7.6,6.15) 132(7.6,6.45)
  rect 0.17x1.6 smd: 45(-6.45,-7.6) 46(-6.15,-7.6) 47(-5.85,-7.6) 48(-5.55,-7.6) 49(-5.25,-7.6) 50(-4.95,-7.6) 51(-4.65,-7.6) 52(-4.35,-7.6) 53(-4.05,-7.6) 54(-3.75,-7.6) 55(-3.45,-7.6) 56(-3.15,-7.6) 57(-2.85,-7.6) 58(-2.55,-7.6) 59(-2.25,-7.6) 60(-1.95,-7.6) 61(-1.65,-7.6) 62(-1.35,-7.6) 63(-1.05,-7.6) 64(-0.75,-7.6) 65(-0.45,-7.6) 66(-0.15,-7.6) 67(0.15,-7.6) 68(0.45,-7.6) 69(0.75,-7.6) 70(1.05,-7.6) 71(1.35,-7.6) 72(1.65,-7.6) 73(1.95,-7.6) 74(2.25,-7.6) 75(2.55,-7.6) 76(2.85,-7.6) 77(3.15,-7.6) 78(3.45,-7.6) 79(3.75,-7.6) 80(4.05,-7.6) 81(4.35,-7.6) 82(4.65,-7.6) 83(4.95,-7.6) 84(5.25,-7.6) 85(5.55,-7.6) 86(5.85,-7.6) 87(6.15,-7.6) 88(6.45,-7.6) 133(6.45,7.6) 134(6.15,7.6) 135(5.85,7.6) 136(5.55,7.6) 137(5.25,7.6) 138(4.95,7.6) 139(4.65,7.6) 140(4.35,7.6) 141(4.05,7.6) 142(3.75,7.6) 143(3.45,7.6) 144(3.15,7.6) 145(2.85,7.6) 146(2.55,7.6) 147(2.25,7.6) 148(1.95,7.6) 149(1.65,7.6) 150(1.35,7.6) 151(1.05,7.6) 152(0.75,7.6) 153(0.45,7.6) 154(0.15,7.6) 155(-0.15,7.6) 156(-0.45,7.6) 157(-0.75,7.6) 158(-1.05,7.6) 159(-1.35,7.6) 160(-1.65,7.6) 161(-1.95,7.6) 162(-2.25,7.6) 163(-2.55,7.6) 164(-2.85,7.6) 165(-3.15,7.6) 166(-3.45,7.6) 167(-3.75,7.6) 168(-4.05,7.6) 169(-4.35,7.6) 170(-4.65,7.6) 171(-4.95,7.6) 172(-5.25,7.6) 173(-5.55,7.6) 174(-5.85,7.6) 175(-6.15,7.6) 176(-6.45,7.6)
Top Overlay:
  circle w0.6: c-5.4,5.4 r0.3
  circle w0.25: c-8.96,6.45 r0.125
  lines w0.2: -6.4,-6.4 -6.4,6.4 6.4,6.4 6.4,-6.4 -6.4,-6.4

## F-QFP20x20-G248/N [mm] "QFP; 248 Leads; Body 20 x 20 mm; Pitch 0.3 mm"
height 2.7
pads (248):
  rect 1.6x0.17 smd: 1(-10.6,9.15) 2(-10.6,8.85) 3(-10.6,8.55) 4(-10.6,8.25) 5(-10.6,7.95) 6(-10.6,7.65) 7(-10.6,7.35) 8(-10.6,7.05) 9(-10.6,6.75) 10(-10.6,6.45) 11(-10.6,6.15) 12(-10.6,5.85) 13(-10.6,5.55) 14(-10.6,5.25) 15(-10.6,4.95) 16(-10.6,4.65) 17(-10.6,4.35) 18(-10.6,4.05) 19(-10.6,3.75) 20(-10.6,3.45) 21(-10.6,3.15) 22(-10.6,2.85) 23(-10.6,2.55) 24(-10.6,2.25) 25(-10.6,1.95) 26(-10.6,1.65) 27(-10.6,1.35) 28(-10.6,1.05) 29(-10.6,0.75) 30(-10.6,0.45) 31(-10.6,0.15) 32(-10.6,-0.15) 33(-10.6,-0.45) 34(-10.6,-0.75) 35(-10.6,-1.05) 36(-10.6,-1.35) 37(-10.6,-1.65) 38(-10.6,-1.95) 39(-10.6,-2.25) 40(-10.6,-2.55) 41(-10.6,-2.85) 42(-10.6,-3.15) 43(-10.6,-3.45) 44(-10.6,-3.75) 45(-10.6,-4.05) 46(-10.6,-4.35) 47(-10.6,-4.65) 48(-10.6,-4.95) 49(-10.6,-5.25) 50(-10.6,-5.55) 51(-10.6,-5.85) 52(-10.6,-6.15) 53(-10.6,-6.45) 54(-10.6,-6.75) 55(-10.6,-7.05) 56(-10.6,-7.35) 57(-10.6,-7.65) 58(-10.6,-7.95) 59(-10.6,-8.25) 60(-10.6,-8.55) 61(-10.6,-8.85) 62(-10.6,-9.15) 125(10.6,-9.15) 126(10.6,-8.85) 127(10.6,-8.55) 128(10.6,-8.25) 129(10.6,-7.95) 130(10.6,-7.65) 131(10.6,-7.35) 132(10.6,-7.05) 133(10.6,-6.75) 134(10.6,-6.45) 135(10.6,-6.15) 136(10.6,-5.85) 137(10.6,-5.55) 138(10.6,-5.25) 139(10.6,-4.95) 140(10.6,-4.65) 141(10.6,-4.35) 142(10.6,-4.05) 143(10.6,-3.75) 144(10.6,-3.45) 145(10.6,-3.15) 146(10.6,-2.85) 147(10.6,-2.55) 148(10.6,-2.25) 149(10.6,-1.95) 150(10.6,-1.65) 151(10.6,-1.35) 152(10.6,-1.05) 153(10.6,-0.75) 154(10.6,-0.45) 155(10.6,-0.15) 156(10.6,0.15) 157(10.6,0.45) 158(10.6,0.75) 159(10.6,1.05) 160(10.6,1.35) 161(10.6,1.65) 162(10.6,1.95) 163(10.6,2.25) 164(10.6,2.55) 165(10.6,2.85) 166(10.6,3.15) 167(10.6,3.45) 168(10.6,3.75) 169(10.6,4.05) 170(10.6,4.35) 171(10.6,4.65) 172(10.6,4.95) 173(10.6,5.25) 174(10.6,5.55) 175(10.6,5.85) 176(10.6,6.15) 177(10.6,6.45) 178(10.6,6.75) 179(10.6,7.05) 180(10.6,7.35) 181(10.6,7.65) 182(10.6,7.95) 183(10.6,8.25) 184(10.6,8.55) 185(10.6,8.85) 186(10.6,9.15)
  rect 0.17x1.6 smd: 63(-9.15,-10.6) 64(-8.85,-10.6) 65(-8.55,-10.6) 66(-8.25,-10.6) 67(-7.95,-10.6) 68(-7.65,-10.6) 69(-7.35,-10.6) 70(-7.05,-10.6) 71(-6.75,-10.6) 72(-6.45,-10.6) 73(-6.15,-10.6) 74(-5.85,-10.6) 75(-5.55,-10.6) 76(-5.25,-10.6) 77(-4.95,-10.6) 78(-4.65,-10.6) 79(-4.35,-10.6) 80(-4.05,-10.6) 81(-3.75,-10.6) 82(-3.45,-10.6) 83(-3.15,-10.6) 84(-2.85,-10.6) 85(-2.55,-10.6) 86(-2.25,-10.6) 87(-1.95,-10.6) 88(-1.65,-10.6) 89(-1.35,-10.6) 90(-1.05,-10.6) 91(-0.75,-10.6) 92(-0.45,-10.6) 93(-0.15,-10.6) 94(0.15,-10.6) 95(0.45,-10.6) 96(0.75,-10.6) 97(1.05,-10.6) 98(1.35,-10.6) 99(1.65,-10.6) 100(1.95,-10.6) 101(2.25,-10.6) 102(2.55,-10.6) 103(2.85,-10.6) 104(3.15,-10.6) 105(3.45,-10.6) 106(3.75,-10.6) 107(4.05,-10.6) 108(4.35,-10.6) 109(4.65,-10.6) 110(4.95,-10.6) 111(5.25,-10.6) 112(5.55,-10.6) 113(5.85,-10.6) 114(6.15,-10.6) 115(6.45,-10.6) 116(6.75,-10.6) 117(7.05,-10.6) 118(7.35,-10.6) 119(7.65,-10.6) 120(7.95,-10.6) 121(8.25,-10.6) 122(8.55,-10.6) 123(8.85,-10.6) 124(9.15,-10.6) 187(9.15,10.6) 188(8.85,10.6) 189(8.55,10.6) 190(8.25,10.6) 191(7.95,10.6) 192(7.65,10.6) 193(7.35,10.6) 194(7.05,10.6) 195(6.75,10.6) 196(6.45,10.6) 197(6.15,10.6) 198(5.85,10.6) 199(5.55,10.6) 200(5.25,10.6) 201(4.95,10.6) 202(4.65,10.6) 203(4.35,10.6) 204(4.05,10.6) 205(3.75,10.6) 206(3.45,10.6) 207(3.15,10.6) 208(2.85,10.6) 209(2.55,10.6) 210(2.25,10.6) 211(1.95,10.6) 212(1.65,10.6) 213(1.35,10.6) 214(1.05,10.6) 215(0.75,10.6) 216(0.45,10.6) 217(0.15,10.6) 218(-0.15,10.6) 219(-0.45,10.6) 220(-0.75,10.6) 221(-1.05,10.6) 222(-1.35,10.6) 223(-1.65,10.6) 224(-1.95,10.6) 225(-2.25,10.6) 226(-2.55,10.6) 227(-2.85,10.6) 228(-3.15,10.6) 229(-3.45,10.6) 230(-3.75,10.6) 231(-4.05,10.6) 232(-4.35,10.6) 233(-4.65,10.6) 234(-4.95,10.6) 235(-5.25,10.6) 236(-5.55,10.6) 237(-5.85,10.6) 238(-6.15,10.6) 239(-6.45,10.6) 240(-6.75,10.6) 241(-7.05,10.6) 242(-7.35,10.6) 243(-7.65,10.6) 244(-7.95,10.6) 245(-8.25,10.6) 246(-8.55,10.6) 247(-8.85,10.6) 248(-9.15,10.6)
Top Overlay:
  circle w0.6: c-8.4,8.4 r0.3
  circle w0.25: c-11.96,9.15 r0.125
  lines w0.2: -9.4,-9.4 -9.4,9.4 9.4,9.4 9.4,-9.4 -9.4,-9.4

## F-QFP20x20-G256/N [mm] "QFP; 256 Leads; Body 20 x 20 mm; Pitch 0.3 mm"
height 2.7
pads (256):
  rect 1.6x0.17 smd: 1(-10.6,9.45) 2(-10.6,9.15) 3(-10.6,8.85) 4(-10.6,8.55) 5(-10.6,8.25) 6(-10.6,7.95) 7(-10.6,7.65) 8(-10.6,7.35) 9(-10.6,7.05) 10(-10.6,6.75) 11(-10.6,6.45) 12(-10.6,6.15) 13(-10.6,5.85) 14(-10.6,5.55) 15(-10.6,5.25) 16(-10.6,4.95) 17(-10.6,4.65) 18(-10.6,4.35) 19(-10.6,4.05) 20(-10.6,3.75) 21(-10.6,3.45) 22(-10.6,3.15) 23(-10.6,2.85) 24(-10.6,2.55) 25(-10.6,2.25) 26(-10.6,1.95) 27(-10.6,1.65) 28(-10.6,1.35) 29(-10.6,1.05) 30(-10.6,0.75) 31(-10.6,0.45) 32(-10.6,0.15) 33(-10.6,-0.15) 34(-10.6,-0.45) 35(-10.6,-0.75) 36(-10.6,-1.05) 37(-10.6,-1.35) 38(-10.6,-1.65) 39(-10.6,-1.95) 40(-10.6,-2.25) 41(-10.6,-2.55) 42(-10.6,-2.85) 43(-10.6,-3.15) 44(-10.6,-3.45) 45(-10.6,-3.75) 46(-10.6,-4.05) 47(-10.6,-4.35) 48(-10.6,-4.65) 49(-10.6,-4.95) 50(-10.6,-5.25) 51(-10.6,-5.55) 52(-10.6,-5.85) 53(-10.6,-6.15) 54(-10.6,-6.45) 55(-10.6,-6.75) 56(-10.6,-7.05) 57(-10.6,-7.35) 58(-10.6,-7.65) 59(-10.6,-7.95) 60(-10.6,-8.25) 61(-10.6,-8.55) 62(-10.6,-8.85) 63(-10.6,-9.15) 64(-10.6,-9.45) 129(10.6,-9.45) 130(10.6,-9.15) 131(10.6,-8.85) 132(10.6,-8.55) 133(10.6,-8.25) 134(10.6,-7.95) 135(10.6,-7.65) 136(10.6,-7.35) 137(10.6,-7.05) 138(10.6,-6.75) 139(10.6,-6.45) 140(10.6,-6.15) 141(10.6,-5.85) 142(10.6,-5.55) 143(10.6,-5.25) 144(10.6,-4.95) 145(10.6,-4.65) 146(10.6,-4.35) 147(10.6,-4.05) 148(10.6,-3.75) 149(10.6,-3.45) 150(10.6,-3.15) 151(10.6,-2.85) 152(10.6,-2.55) 153(10.6,-2.25) 154(10.6,-1.95) 155(10.6,-1.65) 156(10.6,-1.35) 157(10.6,-1.05) 158(10.6,-0.75) 159(10.6,-0.45) 160(10.6,-0.15) 161(10.6,0.15) 162(10.6,0.45) 163(10.6,0.75) 164(10.6,1.05) 165(10.6,1.35) 166(10.6,1.65) 167(10.6,1.95) 168(10.6,2.25) 169(10.6,2.55) 170(10.6,2.85) 171(10.6,3.15) 172(10.6,3.45) 173(10.6,3.75) 174(10.6,4.05) 175(10.6,4.35) 176(10.6,4.65) 177(10.6,4.95) 178(10.6,5.25) 179(10.6,5.55) 180(10.6,5.85) 181(10.6,6.15) 182(10.6,6.45) 183(10.6,6.75) 184(10.6,7.05) 185(10.6,7.35) 186(10.6,7.65) 187(10.6,7.95) 188(10.6,8.25) 189(10.6,8.55) 190(10.6,8.85) 191(10.6,9.15) 192(10.6,9.45)
  rect 0.17x1.6 smd: 65(-9.45,-10.6) 66(-9.15,-10.6) 67(-8.85,-10.6) 68(-8.55,-10.6) 69(-8.25,-10.6) 70(-7.95,-10.6) 71(-7.65,-10.6) 72(-7.35,-10.6) 73(-7.05,-10.6) 74(-6.75,-10.6) 75(-6.45,-10.6) 76(-6.15,-10.6) 77(-5.85,-10.6) 78(-5.55,-10.6) 79(-5.25,-10.6) 80(-4.95,-10.6) 81(-4.65,-10.6) 82(-4.35,-10.6) 83(-4.05,-10.6) 84(-3.75,-10.6) 85(-3.45,-10.6) 86(-3.15,-10.6) 87(-2.85,-10.6) 88(-2.55,-10.6) 89(-2.25,-10.6) 90(-1.95,-10.6) 91(-1.65,-10.6) 92(-1.35,-10.6) 93(-1.05,-10.6) 94(-0.75,-10.6) 95(-0.45,-10.6) 96(-0.15,-10.6) 97(0.15,-10.6) 98(0.45,-10.6) 99(0.75,-10.6) 100(1.05,-10.6) 101(1.35,-10.6) 102(1.65,-10.6) 103(1.95,-10.6) 104(2.25,-10.6) 105(2.55,-10.6) 106(2.85,-10.6) 107(3.15,-10.6) 108(3.45,-10.6) 109(3.75,-10.6) 110(4.05,-10.6) 111(4.35,-10.6) 112(4.65,-10.6) 113(4.95,-10.6) 114(5.25,-10.6) 115(5.55,-10.6) 116(5.85,-10.6) 117(6.15,-10.6) 118(6.45,-10.6) 119(6.75,-10.6) 120(7.05,-10.6) 121(7.35,-10.6) 122(7.65,-10.6) 123(7.95,-10.6) 124(8.25,-10.6) 125(8.55,-10.6) 126(8.85,-10.6) 127(9.15,-10.6) 128(9.45,-10.6) 193(9.45,10.6) 194(9.15,10.6) 195(8.85,10.6) 196(8.55,10.6) 197(8.25,10.6) 198(7.95,10.6) 199(7.65,10.6) 200(7.35,10.6) 201(7.05,10.6) 202(6.75,10.6) 203(6.45,10.6) 204(6.15,10.6) 205(5.85,10.6) 206(5.55,10.6) 207(5.25,10.6) 208(4.95,10.6) 209(4.65,10.6) 210(4.35,10.6) 211(4.05,10.6) 212(3.75,10.6) 213(3.45,10.6) 214(3.15,10.6) 215(2.85,10.6) 216(2.55,10.6) 217(2.25,10.6) 218(1.95,10.6) 219(1.65,10.6) 220(1.35,10.6) 221(1.05,10.6) 222(0.75,10.6) 223(0.45,10.6) 224(0.15,10.6) 225(-0.15,10.6) 226(-0.45,10.6) 227(-0.75,10.6) 228(-1.05,10.6) 229(-1.35,10.6) 230(-1.65,10.6) 231(-1.95,10.6) 232(-2.25,10.6) 233(-2.55,10.6) 234(-2.85,10.6) 235(-3.15,10.6) 236(-3.45,10.6) 237(-3.75,10.6) 238(-4.05,10.6) 239(-4.35,10.6) 240(-4.65,10.6) 241(-4.95,10.6) 242(-5.25,10.6) 243(-5.55,10.6) 244(-5.85,10.6) 245(-6.15,10.6) 246(-6.45,10.6) 247(-6.75,10.6) 248(-7.05,10.6) 249(-7.35,10.6) 250(-7.65,10.6) 251(-7.95,10.6) 252(-8.25,10.6) 253(-8.55,10.6) 254(-8.85,10.6) 255(-9.15,10.6) 256(-9.45,10.6)
Top Overlay:
  circle w0.6: c-8.4,8.4 r0.3
  circle w0.25: c-11.96,9.45 r0.125
  lines w0.2: -9.4,-9.4 -9.4,9.4 9.4,9.4 9.4,-9.4 -9.4,-9.4

## F-QFP24x24-G296/N [mm] "QFP; 296 Leads; Body 24 x 24 mm; Pitch 0.3 mm"
height 3.2
pads (296):
  rect 1.6x0.17 smd: 1(-12.6,10.95) 2(-12.6,10.65) 3(-12.6,10.35) 4(-12.6,10.05) 5(-12.6,9.75) 6(-12.6,9.45) 7(-12.6,9.15) 8(-12.6,8.85) 9(-12.6,8.55) 10(-12.6,8.25) 11(-12.6,7.95) 12(-12.6,7.65) 13(-12.6,7.35) 14(-12.6,7.05) 15(-12.6,6.75) 16(-12.6,6.45) 17(-12.6,6.15) 18(-12.6,5.85) 19(-12.6,5.55) 20(-12.6,5.25) 21(-12.6,4.95) 22(-12.6,4.65) 23(-12.6,4.35) 24(-12.6,4.05) 25(-12.6,3.75) 26(-12.6,3.45) 27(-12.6,3.15) 28(-12.6,2.85) 29(-12.6,2.55) 30(-12.6,2.25) 31(-12.6,1.95) 32(-12.6,1.65) 33(-12.6,1.35) 34(-12.6,1.05) 35(-12.6,0.75) 36(-12.6,0.45) 37(-12.6,0.15) 38(-12.6,-0.15) 39(-12.6,-0.45) 40(-12.6,-0.75) 41(-12.6,-1.05) 42(-12.6,-1.35) 43(-12.6,-1.65) 44(-12.6,-1.95) 45(-12.6,-2.25) 46(-12.6,-2.55) 47(-12.6,-2.85) 48(-12.6,-3.15) 49(-12.6,-3.45) 50(-12.6,-3.75) 51(-12.6,-4.05) 52(-12.6,-4.35) 53(-12.6,-4.65) 54(-12.6,-4.95) 55(-12.6,-5.25) 56(-12.6,-5.55) 57(-12.6,-5.85) 58(-12.6,-6.15) 59(-12.6,-6.45) 60(-12.6,-6.75) 61(-12.6,-7.05) 62(-12.6,-7.35) 63(-12.6,-7.65) 64(-12.6,-7.95) 65(-12.6,-8.25) 66(-12.6,-8.55) 67(-12.6,-8.85) 68(-12.6,-9.15) 69(-12.6,-9.45) 70(-12.6,-9.75) 71(-12.6,-10.05) 72(-12.6,-10.35) 73(-12.6,-10.65) 74(-12.6,-10.95) 149(12.6,-10.95) 150(12.6,-10.65) 151(12.6,-10.35) 152(12.6,-10.05) 153(12.6,-9.75) 154(12.6,-9.45) 155(12.6,-9.15) 156(12.6,-8.85) 157(12.6,-8.55) 158(12.6,-8.25) 159(12.6,-7.95) 160(12.6,-7.65) 161(12.6,-7.35) 162(12.6,-7.05) 163(12.6,-6.75) 164(12.6,-6.45) 165(12.6,-6.15) 166(12.6,-5.85) 167(12.6,-5.55) 168(12.6,-5.25) 169(12.6,-4.95) 170(12.6,-4.65) 171(12.6,-4.35) 172(12.6,-4.05) 173(12.6,-3.75) 174(12.6,-3.45) 175(12.6,-3.15) 176(12.6,-2.85) 177(12.6,-2.55) 178(12.6,-2.25) 179(12.6,-1.95) 180(12.6,-1.65) 181(12.6,-1.35) 182(12.6,-1.05) 183(12.6,-0.75) 184(12.6,-0.45) 185(12.6,-0.15) 186(12.6,0.15) 187(12.6,0.45) 188(12.6,0.75) 189(12.6,1.05) 190(12.6,1.35) 191(12.6,1.65) 192(12.6,1.95) 193(12.6,2.25) 194(12.6,2.55) 195(12.6,2.85) 196(12.6,3.15) 197(12.6,3.45) 198(12.6,3.75) 199(12.6,4.05) 200(12.6,4.35) 201(12.6,4.65) 202(12.6,4.95) 203(12.6,5.25) 204(12.6,5.55) 205(12.6,5.85) 206(12.6,6.15) 207(12.6,6.45) 208(12.6,6.75) 209(12.6,7.05) 210(12.6,7.35) 211(12.6,7.65) 212(12.6,7.95) 213(12.6,8.25) 214(12.6,8.55) 215(12.6,8.85) 216(12.6,9.15) 217(12.6,9.45) 218(12.6,9.75) 219(12.6,10.05) 220(12.6,10.35) 221(12.6,10.65) 222(12.6,10.95)
  rect 0.17x1.6 smd: 75(-10.95,-12.6) 76(-10.65,-12.6) 77(-10.35,-12.6) 78(-10.05,-12.6) 79(-9.75,-12.6) 80(-9.45,-12.6) 81(-9.15,-12.6) 82(-8.85,-12.6) 83(-8.55,-12.6) 84(-8.25,-12.6) 85(-7.95,-12.6) 86(-7.65,-12.6) 87(-7.35,-12.6) 88(-7.05,-12.6) 89(-6.75,-12.6) 90(-6.45,-12.6) 91(-6.15,-12.6) 92(-5.85,-12.6) 93(-5.55,-12.6) 94(-5.25,-12.6) 95(-4.95,-12.6) 96(-4.65,-12.6) 97(-4.35,-12.6) 98(-4.05,-12.6) 99(-3.75,-12.6) 100(-3.45,-12.6) 101(-3.15,-12.6) 102(-2.85,-12.6) 103(-2.55,-12.6) 104(-2.25,-12.6) 105(-1.95,-12.6) 106(-1.65,-12.6) 107(-1.35,-12.6) 108(-1.05,-12.6) 109(-0.75,-12.6) 110(-0.45,-12.6) 111(-0.15,-12.6) 112(0.15,-12.6) 113(0.45,-12.6) 114(0.75,-12.6) 115(1.05,-12.6) 116(1.35,-12.6) 117(1.65,-12.6) 118(1.95,-12.6) 119(2.25,-12.6) 120(2.55,-12.6) 121(2.85,-12.6) 122(3.15,-12.6) 123(3.45,-12.6) 124(3.75,-12.6) 125(4.05,-12.6) 126(4.35,-12.6) 127(4.65,-12.6) 128(4.95,-12.6) 129(5.25,-12.6) 130(5.55,-12.6) 131(5.85,-12.6) 132(6.15,-12.6) 133(6.45,-12.6) 134(6.75,-12.6) 135(7.05,-12.6) 136(7.35,-12.6) 137(7.65,-12.6) 138(7.95,-12.6) 139(8.25,-12.6) 140(8.55,-12.6) 141(8.85,-12.6) 142(9.15,-12.6) 143(9.45,-12.6) 144(9.75,-12.6) 145(10.05,-12.6) 146(10.35,-12.6) 147(10.65,-12.6) 148(10.95,-12.6) 223(10.95,12.6) 224(10.65,12.6) 225(10.35,12.6) 226(10.05,12.6) 227(9.75,12.6) 228(9.45,12.6) 229(9.15,12.6) 230(8.85,12.6) 231(8.55,12.6) 232(8.25,12.6) 233(7.95,12.6) 234(7.65,12.6) 235(7.35,12.6) 236(7.05,12.6) 237(6.75,12.6) 238(6.45,12.6) 239(6.15,12.6) 240(5.85,12.6) 241(5.55,12.6) 242(5.25,12.6) 243(4.95,12.6) 244(4.65,12.6) 245(4.35,12.6) 246(4.05,12.6) 247(3.75,12.6) 248(3.45,12.6) 249(3.15,12.6) 250(2.85,12.6) 251(2.55,12.6) 252(2.25,12.6) 253(1.95,12.6) 254(1.65,12.6) 255(1.35,12.6) 256(1.05,12.6) 257(0.75,12.6) 258(0.45,12.6) 259(0.15,12.6) 260(-0.15,12.6) 261(-0.45,12.6) 262(-0.75,12.6) 263(-1.05,12.6) 264(-1.35,12.6) 265(-1.65,12.6) 266(-1.95,12.6) 267(-2.25,12.6) 268(-2.55,12.6) 269(-2.85,12.6) 270(-3.15,12.6) 271(-3.45,12.6) 272(-3.75,12.6) 273(-4.05,12.6) 274(-4.35,12.6) 275(-4.65,12.6) 276(-4.95,12.6) 277(-5.25,12.6) 278(-5.55,12.6) 279(-5.85,12.6) 280(-6.15,12.6) 281(-6.45,12.6) 282(-6.75,12.6) 283(-7.05,12.6) 284(-7.35,12.6) 285(-7.65,12.6) 286(-7.95,12.6) 287(-8.25,12.6) 288(-8.55,12.6) 289(-8.85,12.6) 290(-9.15,12.6) 291(-9.45,12.6) 292(-9.75,12.6) 293(-10.05,12.6) 294(-10.35,12.6) 295(-10.65,12.6) 296(-10.95,12.6)
Top Overlay:
  circle w0.6: c-10.4,10.4 r0.3
  circle w0.25: c-13.96,10.95 r0.125
  lines w0.2: -11.4,-11.4 -11.4,11.4 11.4,11.4 11.4,-11.4 -11.4,-11.4

## F-QFP24x24-G304/N [mm] "QFP; 304 Leads; Body 24 x 24 mm; Pitch 0.3 mm"
height 3.2
pads (304):
  rect 1.6x0.17 smd: 1(-12.6,11.25) 2(-12.6,10.95) 3(-12.6,10.65) 4(-12.6,10.35) 5(-12.6,10.05) 6(-12.6,9.75) 7(-12.6,9.45) 8(-12.6,9.15) 9(-12.6,8.85) 10(-12.6,8.55) 11(-12.6,8.25) 12(-12.6,7.95) 13(-12.6,7.65) 14(-12.6,7.35) 15(-12.6,7.05) 16(-12.6,6.75) 17(-12.6,6.45) 18(-12.6,6.15) 19(-12.6,5.85) 20(-12.6,5.55) 21(-12.6,5.25) 22(-12.6,4.95) 23(-12.6,4.65) 24(-12.6,4.35) 25(-12.6,4.05) 26(-12.6,3.75) 27(-12.6,3.45) 28(-12.6,3.15) 29(-12.6,2.85) 30(-12.6,2.55) 31(-12.6,2.25) 32(-12.6,1.95) 33(-12.6,1.65) 34(-12.6,1.35) 35(-12.6,1.05) 36(-12.6,0.75) 37(-12.6,0.45) 38(-12.6,0.15) 39(-12.6,-0.15) 40(-12.6,-0.45) 41(-12.6,-0.75) 42(-12.6,-1.05) 43(-12.6,-1.35) 44(-12.6,-1.65) 45(-12.6,-1.95) 46(-12.6,-2.25) 47(-12.6,-2.55) 48(-12.6,-2.85) 49(-12.6,-3.15) 50(-12.6,-3.45) 51(-12.6,-3.75) 52(-12.6,-4.05) 53(-12.6,-4.35) 54(-12.6,-4.65) 55(-12.6,-4.95) 56(-12.6,-5.25) 57(-12.6,-5.55) 58(-12.6,-5.85) 59(-12.6,-6.15) 60(-12.6,-6.45) 61(-12.6,-6.75) 62(-12.6,-7.05) 63(-12.6,-7.35) 64(-12.6,-7.65) 65(-12.6,-7.95) 66(-12.6,-8.25) 67(-12.6,-8.55) 68(-12.6,-8.85) 69(-12.6,-9.15) 70(-12.6,-9.45) 71(-12.6,-9.75) 72(-12.6,-10.05) 73(-12.6,-10.35) 74(-12.6,-10.65) 75(-12.6,-10.95) 76(-12.6,-11.25) 153(12.6,-11.25) 154(12.6,-10.95) 155(12.6,-10.65) 156(12.6,-10.35) 157(12.6,-10.05) 158(12.6,-9.75) 159(12.6,-9.45) 160(12.6,-9.15) 161(12.6,-8.85) 162(12.6,-8.55) 163(12.6,-8.25) 164(12.6,-7.95) 165(12.6,-7.65) 166(12.6,-7.35) 167(12.6,-7.05) 168(12.6,-6.75) 169(12.6,-6.45) 170(12.6,-6.15) 171(12.6,-5.85) 172(12.6,-5.55) 173(12.6,-5.25) 174(12.6,-4.95) 175(12.6,-4.65) 176(12.6,-4.35) 177(12.6,-4.05) 178(12.6,-3.75) 179(12.6,-3.45) 180(12.6,-3.15) 181(12.6,-2.85) 182(12.6,-2.55) 183(12.6,-2.25) 184(12.6,-1.95) 185(12.6,-1.65) 186(12.6,-1.35) 187(12.6,-1.05) 188(12.6,-0.75) 189(12.6,-0.45) 190(12.6,-0.15) 191(12.6,0.15) 192(12.6,0.45) 193(12.6,0.75) 194(12.6,1.05) 195(12.6,1.35) 196(12.6,1.65) 197(12.6,1.95) 198(12.6,2.25) 199(12.6,2.55) 200(12.6,2.85) 201(12.6,3.15) 202(12.6,3.45) 203(12.6,3.75) 204(12.6,4.05) 205(12.6,4.35) 206(12.6,4.65) 207(12.6,4.95) 208(12.6,5.25) 209(12.6,5.55) 210(12.6,5.85) 211(12.6,6.15) 212(12.6,6.45) 213(12.6,6.75) 214(12.6,7.05) 215(12.6,7.35) 216(12.6,7.65) 217(12.6,7.95) 218(12.6,8.25) 219(12.6,8.55) 220(12.6,8.85) 221(12.6,9.15) 222(12.6,9.45) 223(12.6,9.75) 224(12.6,10.05) 225(12.6,10.35) 226(12.6,10.65) 227(12.6,10.95) 228(12.6,11.25)
  rect 0.17x1.6 smd: 77(-11.25,-12.6) 78(-10.95,-12.6) 79(-10.65,-12.6) 80(-10.35,-12.6) 81(-10.05,-12.6) 82(-9.75,-12.6) 83(-9.45,-12.6) 84(-9.15,-12.6) 85(-8.85,-12.6) 86(-8.55,-12.6) 87(-8.25,-12.6) 88(-7.95,-12.6) 89(-7.65,-12.6) 90(-7.35,-12.6) 91(-7.05,-12.6) 92(-6.75,-12.6) 93(-6.45,-12.6) 94(-6.15,-12.6) 95(-5.85,-12.6) 96(-5.55,-12.6) 97(-5.25,-12.6) 98(-4.95,-12.6) 99(-4.65,-12.6) 100(-4.35,-12.6) 101(-4.05,-12.6) 102(-3.75,-12.6) 103(-3.45,-12.6) 104(-3.15,-12.6) 105(-2.85,-12.6) 106(-2.55,-12.6) 107(-2.25,-12.6) 108(-1.95,-12.6) 109(-1.65,-12.6) 110(-1.35,-12.6) 111(-1.05,-12.6) 112(-0.75,-12.6) 113(-0.45,-12.6) 114(-0.15,-12.6) 115(0.15,-12.6) 116(0.45,-12.6) 117(0.75,-12.6) 118(1.05,-12.6) 119(1.35,-12.6) 120(1.65,-12.6) 121(1.95,-12.6) 122(2.25,-12.6) 123(2.55,-12.6) 124(2.85,-12.6) 125(3.15,-12.6) 126(3.45,-12.6) 127(3.75,-12.6) 128(4.05,-12.6) 129(4.35,-12.6) 130(4.65,-12.6) 131(4.95,-12.6) 132(5.25,-12.6) 133(5.55,-12.6) 134(5.85,-12.6) 135(6.15,-12.6) 136(6.45,-12.6) 137(6.75,-12.6) 138(7.05,-12.6) 139(7.35,-12.6) 140(7.65,-12.6) 141(7.95,-12.6) 142(8.25,-12.6) 143(8.55,-12.6) 144(8.85,-12.6) 145(9.15,-12.6) 146(9.45,-12.6) 147(9.75,-12.6) 148(10.05,-12.6) 149(10.35,-12.6) 150(10.65,-12.6) 151(10.95,-12.6) 152(11.25,-12.6) 229(11.25,12.6) 230(10.95,12.6) 231(10.65,12.6) 232(10.35,12.6) 233(10.05,12.6) 234(9.75,12.6) 235(9.45,12.6) 236(9.15,12.6) 237(8.85,12.6) 238(8.55,12.6) 239(8.25,12.6) 240(7.95,12.6) 241(7.65,12.6) 242(7.35,12.6) 243(7.05,12.6) 244(6.75,12.6) 245(6.45,12.6) 246(6.15,12.6) 247(5.85,12.6) 248(5.55,12.6) 249(5.25,12.6) 250(4.95,12.6) 251(4.65,12.6) 252(4.35,12.6) 253(4.05,12.6) 254(3.75,12.6) 255(3.45,12.6) 256(3.15,12.6) 257(2.85,12.6) 258(2.55,12.6) 259(2.25,12.6) 260(1.95,12.6) 261(1.65,12.6) 262(1.35,12.6) 263(1.05,12.6) 264(0.75,12.6) 265(0.45,12.6) 266(0.15,12.6) 267(-0.15,12.6) 268(-0.45,12.6) 269(-0.75,12.6) 270(-1.05,12.6) 271(-1.35,12.6) 272(-1.65,12.6) 273(-1.95,12.6) 274(-2.25,12.6) 275(-2.55,12.6) 276(-2.85,12.6) 277(-3.15,12.6) 278(-3.45,12.6) 279(-3.75,12.6) 280(-4.05,12.6) 281(-4.35,12.6) 282(-4.65,12.6) 283(-4.95,12.6) 284(-5.25,12.6) 285(-5.55,12.6) 286(-5.85,12.6) 287(-6.15,12.6) 288(-6.45,12.6) 289(-6.75,12.6) 290(-7.05,12.6) 291(-7.35,12.6) 292(-7.65,12.6) 293(-7.95,12.6) 294(-8.25,12.6) 295(-8.55,12.6) 296(-8.85,12.6) 297(-9.15,12.6) 298(-9.45,12.6) 299(-9.75,12.6) 300(-10.05,12.6) 301(-10.35,12.6) 302(-10.65,12.6) 303(-10.95,12.6) 304(-11.25,12.6)
Top Overlay:
  circle w0.6: c-10.4,10.4 r0.3
  circle w0.25: c-13.96,11.25 r0.125
  lines w0.2: -11.4,-11.4 -11.4,11.4 11.4,11.4 11.4,-11.4 -11.4,-11.4